# Altium footprint library LED.PcbLib: 11 footprints
Each footprint in its own frame and in the unit in brackets; x right, y up, seen from the top. Pads: shape width x height; smd on the part's side, far side on the other; paste and mask are expansions set on the pad; w line width, h text height; cw(c..) or ccw(c..) is an arc to the next point about the centre after c.
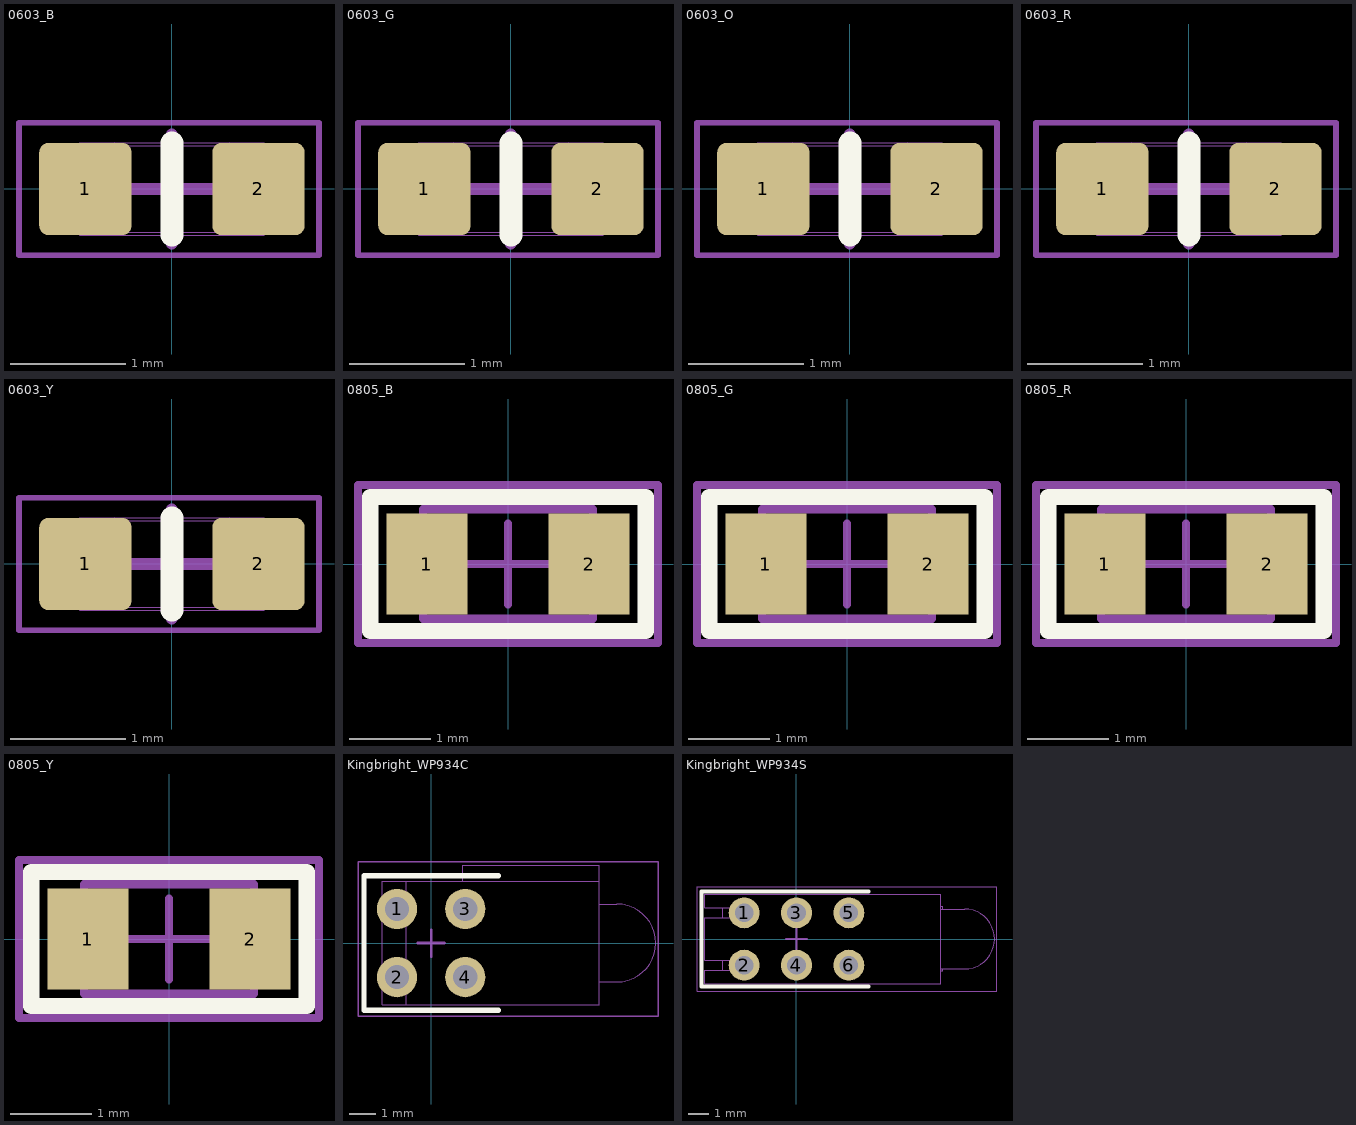
[diagram p0: the footprints below, top view; thin cyan lines are the x and y axes]

## 0603_B [mm] "0603 Led, Blue Color"
height 0.55
pads (2):
  rrect20% 0.8x0.8 smd: 1(-0.75,0) 2(0.75,0)
Top Overlay:
  lines w0.2: 0,-0.4 0,0.4
Mechanical 1:
  lines w0.01: -0.55,-0.4 -0.55,0.4 ; 0.55,-0.4 0.55,0.4 ; -0.523,-0.324 ccw(c-0.475,-0.325) -0.474,-0.373 ; -0.523,-0.324 -0.55,-0.35 ccw(c-0.475,-0.325) -0.5,-0.4 ; -0.523,-0.324 -0.523,0.324 ; -0.523,0.324 cw(c-0.475,0.325) -0.474,0.373 ; -0.523,0.324 -0.55,0.35 cw(c-0.475,0.325) -0.5,0.4 ; -0.501,-0.4 -0.8,-0.4 -0.8,-0.15 ccw(c-0.8,0) -0.8,0.15 -0.8,0.4 0.8,0.4 0.8,0.15 ccw(c0.8,0) 0.8,-0.15 0.8,-0.4 0.501,-0.4 ; -0.5,-0.4 0.5,-0.4 ; -0.5,-0.4 -0.474,-0.373 ; -0.5,0.4 0.5,0.4 ; -0.5,0.4 -0.474,0.373 ; -0.474,-0.373 0.474,-0.373 ; -0.474,0.373 0.474,0.373 ; 0.474,-0.373 ccw(c0.475,-0.325) 0.523,-0.324 ; 0.474,-0.373 0.5,-0.4 ; 0.474,0.373 cw(c0.475,0.325) 0.523,0.324 ; 0.474,0.373 0.5,0.4 ; 0.5,-0.4 ccw(c0.475,-0.325) 0.55,-0.35 0.523,-0.324 ; 0.5,0.4 cw(c0.475,0.325) 0.55,0.35 0.523,0.324 ; 0.523,-0.324 0.523,0.324
Mechanical 15:
  lines w0.05: -1.325,-0.575 -1.325,0.575 1.275,0.575 1.275,-0.575 -1.325,-0.575
  lines w0.1: -0.475,0 0.475,0 ; 0,-0.475 0,0.475
3D body "LED_0603_BLUE.STEP": height 0.53, standoff 0, extent -0.8,-0.4 0.8,0.4

## 0603_G [mm] "0603 Led, Green Color"
height 0.55
pads (2):
  rrect20% 0.8x0.8 smd: 1(-0.75,0) 2(0.75,0)
Top Overlay:
  lines w0.2: 0,-0.4 0,0.4
Mechanical 1:
  lines w0.01: -0.55,-0.4 -0.55,0.4 ; 0.55,-0.4 0.55,0.4 ; -0.523,-0.324 ccw(c-0.475,-0.325) -0.474,-0.373 ; -0.523,-0.324 -0.55,-0.35 ccw(c-0.475,-0.325) -0.5,-0.4 ; -0.523,-0.324 -0.523,0.324 ; -0.523,0.324 cw(c-0.475,0.325) -0.474,0.373 ; -0.523,0.324 -0.55,0.35 cw(c-0.475,0.325) -0.5,0.4 ; -0.501,-0.4 -0.8,-0.4 -0.8,-0.15 ccw(c-0.8,0) -0.8,0.15 -0.8,0.4 0.8,0.4 0.8,0.15 ccw(c0.8,0) 0.8,-0.15 0.8,-0.4 0.501,-0.4 ; -0.5,-0.4 0.5,-0.4 ; -0.5,-0.4 -0.474,-0.373 ; -0.5,0.4 0.5,0.4 ; -0.5,0.4 -0.474,0.373 ; -0.474,-0.373 0.474,-0.373 ; -0.474,0.373 0.474,0.373 ; 0.474,-0.373 ccw(c0.475,-0.325) 0.523,-0.324 ; 0.474,-0.373 0.5,-0.4 ; 0.474,0.373 cw(c0.475,0.325) 0.523,0.324 ; 0.474,0.373 0.5,0.4 ; 0.5,-0.4 ccw(c0.475,-0.325) 0.55,-0.35 0.523,-0.324 ; 0.5,0.4 cw(c0.475,0.325) 0.55,0.35 0.523,0.324 ; 0.523,-0.324 0.523,0.324
Mechanical 15:
  lines w0.05: -1.325,-0.575 -1.325,0.575 1.275,0.575 1.275,-0.575 -1.325,-0.575
  lines w0.1: -0.475,0 0.475,0 ; 0,-0.475 0,0.475
3D body "LED_0603_GREEN.STEP": height 0.53, standoff 0, extent -0.8,-0.4 0.8,0.4

## 0603_O [mm] "0603 Led, Orange Color"
height 0.55
pads (2):
  rrect20% 0.8x0.8 smd: 1(-0.75,0) 2(0.75,0)
Top Overlay:
  lines w0.2: 0,-0.4 0,0.4
Mechanical 1:
  lines w0.01: -0.55,-0.4 -0.55,0.4 ; 0.55,-0.4 0.55,0.4 ; -0.523,-0.324 ccw(c-0.475,-0.325) -0.474,-0.373 ; -0.523,-0.324 -0.55,-0.35 ccw(c-0.475,-0.325) -0.5,-0.4 ; -0.523,-0.324 -0.523,0.324 ; -0.523,0.324 cw(c-0.475,0.325) -0.474,0.373 ; -0.523,0.324 -0.55,0.35 cw(c-0.475,0.325) -0.5,0.4 ; -0.501,-0.4 -0.8,-0.4 -0.8,-0.15 ccw(c-0.8,0) -0.8,0.15 -0.8,0.4 0.8,0.4 0.8,0.15 ccw(c0.8,0) 0.8,-0.15 0.8,-0.4 0.501,-0.4 ; -0.5,-0.4 0.5,-0.4 ; -0.5,-0.4 -0.474,-0.373 ; -0.5,0.4 0.5,0.4 ; -0.5,0.4 -0.474,0.373 ; -0.474,-0.373 0.474,-0.373 ; -0.474,0.373 0.474,0.373 ; 0.474,-0.373 ccw(c0.475,-0.325) 0.523,-0.324 ; 0.474,-0.373 0.5,-0.4 ; 0.474,0.373 cw(c0.475,0.325) 0.523,0.324 ; 0.474,0.373 0.5,0.4 ; 0.5,-0.4 ccw(c0.475,-0.325) 0.55,-0.35 0.523,-0.324 ; 0.5,0.4 cw(c0.475,0.325) 0.55,0.35 0.523,0.324 ; 0.523,-0.324 0.523,0.324
Mechanical 15:
  lines w0.05: -1.325,-0.575 -1.325,0.575 1.275,0.575 1.275,-0.575 -1.325,-0.575
  lines w0.1: -0.475,0 0.475,0 ; 0,-0.475 0,0.475
3D body "LED_0603_ORANGE.STEP": height 0.53, standoff 0, extent -0.8,-0.4 0.8,0.4

## 0603_R [mm] "0603 Led, Red Color"
height 0.55
pads (2):
  rrect20% 0.8x0.8 smd: 1(-0.75,0) 2(0.75,0)
Top Overlay:
  lines w0.2: 0,-0.4 0,0.4
Mechanical 1:
  lines w0.01: -0.55,-0.4 -0.55,0.4 ; 0.55,-0.4 0.55,0.4 ; -0.523,-0.324 ccw(c-0.475,-0.325) -0.474,-0.373 ; -0.523,-0.324 -0.55,-0.35 ccw(c-0.475,-0.325) -0.5,-0.4 ; -0.523,-0.324 -0.523,0.324 ; -0.523,0.324 cw(c-0.475,0.325) -0.474,0.373 ; -0.523,0.324 -0.55,0.35 cw(c-0.475,0.325) -0.5,0.4 ; -0.501,-0.4 -0.8,-0.4 -0.8,-0.15 ccw(c-0.8,0) -0.8,0.15 -0.8,0.4 0.8,0.4 0.8,0.15 ccw(c0.8,0) 0.8,-0.15 0.8,-0.4 0.501,-0.4 ; -0.5,-0.4 0.5,-0.4 ; -0.5,-0.4 -0.474,-0.373 ; -0.5,0.4 0.5,0.4 ; -0.5,0.4 -0.474,0.373 ; -0.474,-0.373 0.474,-0.373 ; -0.474,0.373 0.474,0.373 ; 0.474,-0.373 ccw(c0.475,-0.325) 0.523,-0.324 ; 0.474,-0.373 0.5,-0.4 ; 0.474,0.373 cw(c0.475,0.325) 0.523,0.324 ; 0.474,0.373 0.5,0.4 ; 0.5,-0.4 ccw(c0.475,-0.325) 0.55,-0.35 0.523,-0.324 ; 0.5,0.4 cw(c0.475,0.325) 0.55,0.35 0.523,0.324 ; 0.523,-0.324 0.523,0.324
Mechanical 15:
  lines w0.05: -1.325,-0.575 -1.325,0.575 1.275,0.575 1.275,-0.575 -1.325,-0.575
  lines w0.1: -0.475,0 0.475,0 ; 0,-0.475 0,0.475
3D body "LED_0603_RED.STEP": height 0.53, standoff 0, extent -0.8,-0.4 0.8,0.4

## 0603_Y [mm] "0603 Led, Yellow Color"
height 0.55
pads (2):
  rrect20% 0.8x0.8 smd: 1(-0.75,0) 2(0.75,0)
Top Overlay:
  lines w0.2: 0,-0.4 0,0.4
Mechanical 1:
  lines w0.01: -0.55,-0.4 -0.55,0.4 ; 0.55,-0.4 0.55,0.4 ; -0.523,-0.324 ccw(c-0.475,-0.325) -0.474,-0.373 ; -0.523,-0.324 -0.55,-0.35 ccw(c-0.475,-0.325) -0.5,-0.4 ; -0.523,-0.324 -0.523,0.324 ; -0.523,0.324 cw(c-0.475,0.325) -0.474,0.373 ; -0.523,0.324 -0.55,0.35 cw(c-0.475,0.325) -0.5,0.4 ; -0.501,-0.4 -0.8,-0.4 -0.8,-0.15 ccw(c-0.8,0) -0.8,0.15 -0.8,0.4 0.8,0.4 0.8,0.15 ccw(c0.8,0) 0.8,-0.15 0.8,-0.4 0.501,-0.4 ; -0.5,-0.4 0.5,-0.4 ; -0.5,-0.4 -0.474,-0.373 ; -0.5,0.4 0.5,0.4 ; -0.5,0.4 -0.474,0.373 ; -0.474,-0.373 0.474,-0.373 ; -0.474,0.373 0.474,0.373 ; 0.474,-0.373 ccw(c0.475,-0.325) 0.523,-0.324 ; 0.474,-0.373 0.5,-0.4 ; 0.474,0.373 cw(c0.475,0.325) 0.523,0.324 ; 0.474,0.373 0.5,0.4 ; 0.5,-0.4 ccw(c0.475,-0.325) 0.55,-0.35 0.523,-0.324 ; 0.5,0.4 cw(c0.475,0.325) 0.55,0.35 0.523,0.324 ; 0.523,-0.324 0.523,0.324
Mechanical 15:
  lines w0.05: -1.325,-0.575 -1.325,0.575 1.275,0.575 1.275,-0.575 -1.325,-0.575
  lines w0.1: -0.475,0 0.475,0 ; 0,-0.475 0,0.475
3D body "LED_0603_YELLOW.STEP": height 0.53, standoff 0, extent -0.8,-0.4 0.8,0.4

## 0805_B [mm]
height 1
pads (2):
  rect 1x1.25 smd: 1(-1,0) 2(1,0)
Top Overlay:
  lines w0.2: -1.7,-0.825 1.7,-0.825 1.7,0.825 -1.7,0.825 -1.7,-0.825
Mechanical 1:
  lines w0.1: -1.05,-0.675 1.05,-0.675 1.05,0.675 -1.05,0.675 -1.05,-0.675
Mechanical 15:
  lines w0.1: -0.5,0 0.5,0 ; 0,-0.5 0,0.5 ; -1.85,-0.975 -1.85,0.975 1.85,0.975 1.85,-0.975 -1.85,-0.975
3D body "LED 0805 - BLUE.STEP": height 0.9, standoff -0.01, extent -1.05,-0.675 1.05,0.675

## 0805_G [mm]
height 1
pads (2):
  rect 1x1.25 smd: 1(-1,0) 2(1,0)
Top Overlay:
  lines w0.2: -1.7,-0.825 1.7,-0.825 1.7,0.825 -1.7,0.825 -1.7,-0.825
Mechanical 1:
  lines w0.1: -1.05,-0.675 1.05,-0.675 1.05,0.675 -1.05,0.675 -1.05,-0.675
Mechanical 15:
  lines w0.1: -0.5,0 0.5,0 ; 0,-0.5 0,0.5 ; -1.85,-0.975 -1.85,0.975 1.85,0.975 1.85,-0.975 -1.85,-0.975
3D body "LED 0805 - GREEN.STEP": height 0.9, standoff -0.01, extent -1.05,-0.675 1.05,0.675

## 0805_R [mm]
height 1
pads (2):
  rect 1x1.25 smd: 1(-1,0) 2(1,0)
Top Overlay:
  lines w0.2: -1.7,-0.825 1.7,-0.825 1.7,0.825 -1.7,0.825 -1.7,-0.825
Mechanical 1:
  lines w0.1: -1.05,-0.675 -1.05,0.675 1.05,0.675 1.05,-0.675 -1.05,-0.675
Mechanical 15:
  lines w0.1: -0.5,0 0.5,0 ; 0,-0.5 0,0.5 ; -1.85,-0.975 -1.85,0.975 1.85,0.975 1.85,-0.975 -1.85,-0.975
3D body "User Library-CHIPLED-0805.STEP": height 0.9, standoff -0.01, extent -1.05,-0.675 1.05,0.675

## 0805_Y [mm]
height 1
pads (2):
  rect 1x1.25 smd: 1(-1,0) 2(1,0)
Top Overlay:
  lines w0.2: -1.7,-0.825 -1.7,0.825 1.7,0.825 1.7,-0.825 -1.7,-0.825
Mechanical 1:
  lines w0.1: -1.05,-0.675 1.05,-0.675 1.05,0.675 -1.05,0.675 -1.05,-0.675
Mechanical 15:
  lines w0.1: -0.5,0 0.5,0 ; 0,-0.5 0,0.5 ; -1.85,-0.975 1.85,-0.975 1.85,0.975 -1.85,0.975 -1.85,-0.975
3D body "orange.STEP": height 0.9, standoff -0.01, extent -1.05,-0.675 1.05,0.675

## Kingbright_WP934C [mm]
pads (4):
  round 1.5 hole 0.9: 1(-1.27,1.27) 2(-1.27,-1.27) 3(1.27,1.27) 4(1.27,-1.27)
Top Overlay:
  lines w0.2: 2.5,-2.5 -2.5,-2.5 -2.5,2.5 2.5,2.5
Mechanical 1:
  lines w0.025: -1.52,-1.52 -1.52,-1.02 ; -1.52,1.02 -1.52,1.52 ; 1.17,2.3 1.17,2.9 6.27,2.9 6.27,2.3 ; 6.27,-1.45 6.92,-1.45 ccw(c6.92,0) 8.37,0 ccw(c6.92,0) 6.92,1.45 6.27,1.45 ; -0.93,-2.3 -0.93,2.3 ; -0.93,-2.3 6.27,-2.3 6.27,2.3 ; -0.93,-2.3 -1.83,-2.3 -1.83,-1.52 -1.02,-1.52 -1.02,-1.02 -1.83,-1.02 -1.83,1.02 -1.02,1.02 -1.02,1.52 -1.83,1.52 -1.83,2.3 -0.93,2.3 ; -0.93,2.3 6.27,2.3
Mechanical 15:
  lines w0.05: -2.725,-2.725 -2.725,3.025 8.45,3.025 8.45,-2.725 -2.725,-2.725
  lines w0.1: -0.5,0 0.5,0 ; 0,-0.5 0,0.5
3D body "934CA.STEP": height 9.85, standoff -2.95, extent -1.83,-2.3 8.37,2.9

## Kingbright_WP934S [mm]
pads (6):
  round 1.5 hole 0.9: 1(-2.54,1.27) 2(-2.54,-1.27) 3(0,1.27) 4(0,-1.27) 5(2.54,1.27) 6(2.54,-1.27)
Top Overlay:
  lines w0.2: 3.5,-2.3 -4.6,-2.3 -4.6,2.3 3.5,2.3
Mechanical 1:
  lines w0.025: -3.575,-1.52 -3.575,-1.02 ; -3.575,1.02 -3.575,1.52 ; -2.795,-1.52 -2.795,-1.02 ; -2.795,1.02 -2.795,1.52 ; 6.985,-1.538 7.085,-1.538 7.085,-1.45 ; 6.985,-1.45 8.155,-1.45 ccw(c8.155,0) 9.605,0 ccw(c8.155,0) 8.155,1.45 6.985,1.45 ; 6.985,1.577 7.085,1.577 7.085,1.45 ; -4.445,-2.16 6.985,-2.16 6.985,2.16 -4.445,2.16 -4.445,1.52 -2.295,1.52 -2.295,1.02 -4.445,1.02 -4.445,-1.02 -2.295,-1.02 -2.295,-1.52 -4.445,-1.52 -4.445,-2.16
Mechanical 15:
  lines w0.05: -4.825,-2.525 -4.825,2.525 9.725,2.525 9.725,-2.525 -4.825,-2.525
  lines w0.1: -0.5,0 0.5,0 ; 0,-0.5 0,0.5
3D body "934SA.STEP": height 15.24, standoff -3.5, extent -4.445,-2.16 9.605,2.16